# Altium schematic symbol library USB_Interface.SchLib: 5 symbols
Pins are listed as number, name and electrical type; pins without a type are passive.

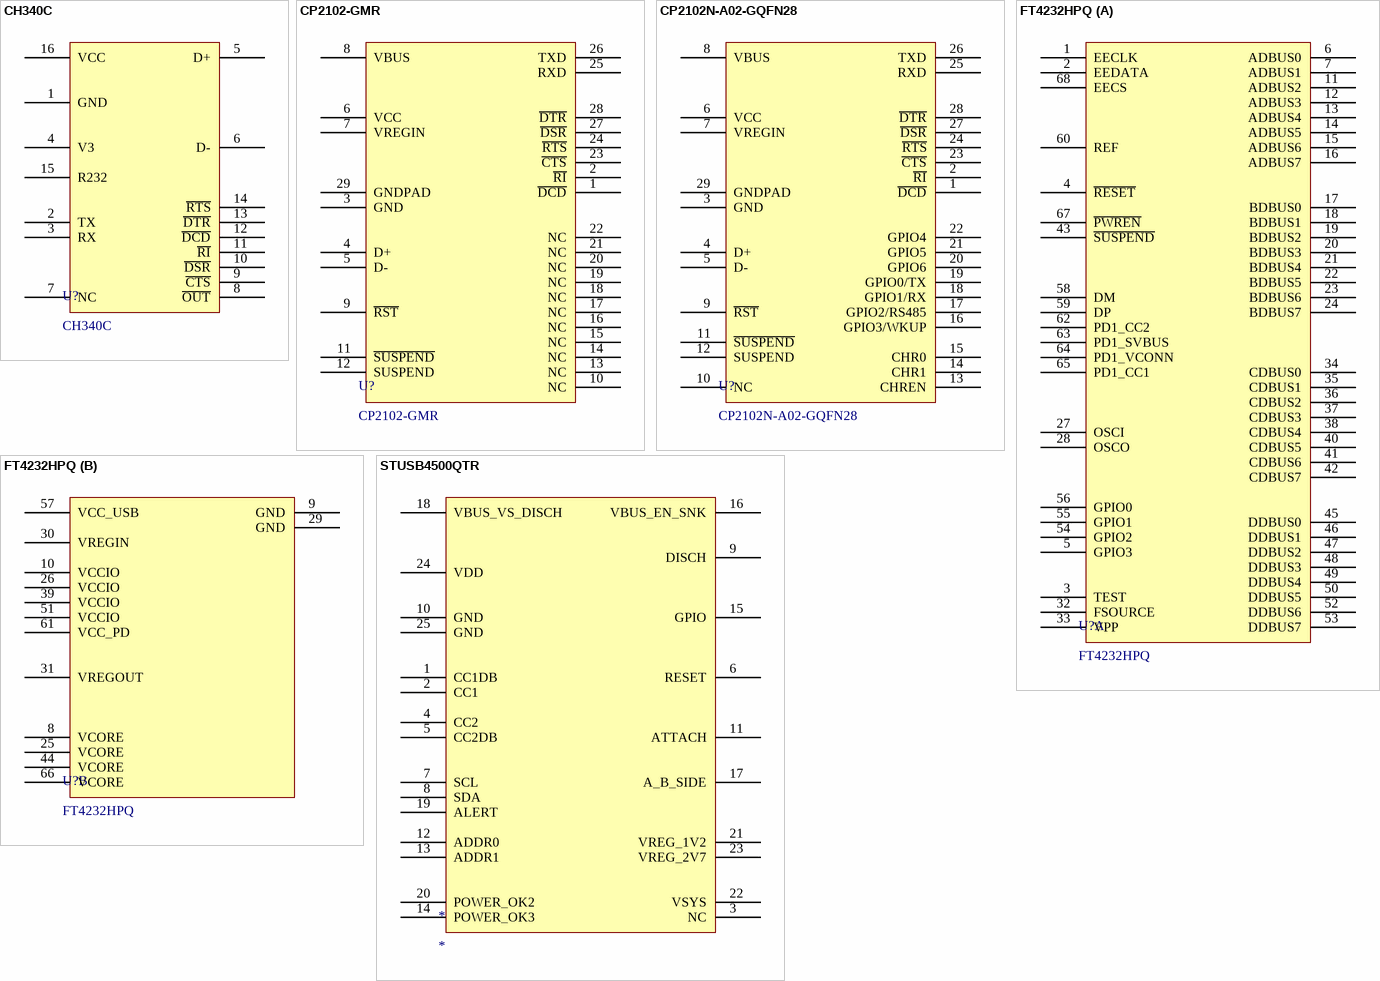
[diagram p0: symbols CH340C to STUSB4500QTR]

## CH340C
designator U?
USB to serial chip CH340; Manufacturer: WCH; Data rate: 2 Mb/s; Numbers of Ports: 1 Port; Speed: Full Speed (FS); Supply Voltage - Max: 3.3V; Supply Voltage - Min: 5V; Pad count: 16; Active: Active; Manufacturer Part Number: CH340C; Mount: SMD/SMT; Operating Temperature Max: + 85 C; Operating Temperature Min: - 40 C; Package / Case: SOP-16; Packaging: Tape and Reel; Standard: USB 2.0; Supplier 1: Mouser; Supplier 1 Part Number: N/A; Supplier 1 URL: N/A; Supplier 2: Digi-Key; Supplier 2 Part Number: N/A; Supplier 2 URL: N/A; Supplier 3: thegioiic; Supplier 3 Part Number: CH340C; Supplier 3 URL: https://www.thegioiic.com/ch340c-ic-usb-transceiver-2mbps-16-sop; Value: CH340C; ComponentLink1Description: Datasheet; ComponentLink1URL: https://www.thegioiic.com/upload/documents/9f224927ccfc4b1ab639cd34eba4ea3a.pdf; LCSC Part #: C84681
footprint CH340
pins: 1 GND, 2 TX, 3 RX, 4 V3, 5 D+, 6 D-, 7 NC, 8 ~{OUT}, 9 ~{CTS}, 10 ~{DSR}, 11 ~{RI}, 12 ~{DCD}, 13 ~{DTR}, 14 ~{RTS}, 15 R232, 16 VCC

## CP2102-GMR
designator U?
USB Interface IC USB to UART Bridge QFN28; Manufacturer: Silicon Laboratories; Active: NRND; Pad count: 28; Data rate: 12 Mb/s; Numbers of Ports: 1 Port; Speed: Full Speed (FS); Supply Voltage - Max: 3V; Supply Voltage - Min: 3.6V; Standard: USB 2.0; Supplier 1 URL: https://www.mouser.com/ProductDetail/Silicon-Labs/CP2102-GMR?qs=cNyzPCcHMUWu%2FiPhR8KQAw%3D%3D; Supplier 2 URL: https://www.digikey.com/en/products/detail/silicon-labs/cp2102-gmr/2051863; Supplier 3 URL: https://www.thegioiic.com/cp2102-ic-usb-controller-12mbps-28-qfn; Value: CP2102-GMR; Manufacturer Part Number: CP2102-GMR; Packaging: Tape and Reel; Supplier 1: Mouser; Supplier 1 Part Number: 634-CP2102-GMR; Supplier 2: Digi-Key; Supplier 2 Part Number: 336-1160-2-ND; Supplier 3: thegioiic; Supplier 3 Part Number: N/A; Mount: SMD/SMT; Operating Temperature Max: + 85 C; Operating Temperature Min: - 40 C; Package / Case: QFN-28; ComponentLink1Description: Datasheet; ComponentLink1URL: https://www.mouser.com/datasheet/2/368/CP2102-9-1397909.pdf; LCSC Part #: C6568
footprint CP2102-GMR (QFN, 28-Leads, Body 5.00x5.00mm, Pitch 0.50mm, Thermal Pad 3.13x3.13mm, IPC Medium Density)
pins: 1 ~{DCD}, 2 ~{RI}, 3 GND, 4 D+, 5 D-, 6 VCC, 7 VREGIN, 8 VBUS, 9 ~{RST}, 10 NC, 11 ~{SUSPEND}, 12 SUSPEND, 13 NC, 14 NC, 15 NC, 16 NC, 17 NC, 18 NC, 19 NC, 20 NC, 21 NC, 22 NC, 23 ~{CTS}, 24 ~{RTS}, 25 RXD, 26 TXD, 27 ~{DSR}, 28 ~{DTR}, 29 GNDPAD

## CP2102N-A02-GQFN28
designator U?
USB Interface IC USBXpress - USB to UART Bridge QFN28; Manufacturer: Silicon Laboratories; Data rate: 3 Mb/s; Numbers of Ports: 1 Port; Pad count: 28; Speed: Full Speed (FS); Supply Voltage - Max: 3V; Supply Voltage - Min: 3.6V; Active: Active; Standard: USB 2.0; Supplier 1 URL: https://www.mouser.com/ProductDetail/Silicon-Labs/CP2102N-A02-GQFN28?qs=sGAEpiMZZMuobhpKLk3hhxBFe7HcKaKttxz9xOIMcEs%3D; Supplier 2 URL: https://www.digikey.com/en/products/detail/silicon-labs/cp2102n-a02-gqfn28/9863477; Supplier 3 URL: N/A; Value: CP2102N-A02-GQFN28; Manufacturer Part Number: CP2102N-A02-GQFN28; Packaging: Tape and Reel; Supplier 1: Mouser; Supplier 1 Part Number: 634-CP2102NA02GQFN28; Supplier 2: Digi-Key; Supplier 2 Part Number: 336-5889-ND; Supplier 3: thegioiic; Supplier 3 Part Number: N/A; Mount: SMD/SMT; Operating Temperature Max: + 85 C; Operating Temperature Min: - 40 C; Package / Case: QFN-28; ComponentLink1Description: Datasheet; ComponentLink1URL: https://www.mouser.com/datasheet/2/368/cp2102n_datasheet-1634912.pdf; LCSC Part #: C964632
footprint CP2102N-A02-GQFN28 (QFN, 28-Leads, Body 5.00x5.00mm, Pitch 0.50mm, Thermal Pad 3.25x3.25mm, IPC Medium Density)
pins: 1 ~{DCD}, 2 ~{RI}, 3 GND, 4 D+, 5 D-, 6 VCC, 7 VREGIN, 8 VBUS, 9 ~{RST}, 10 NC, 11 ~{SUSPEND}, 12 SUSPEND, 13 CHREN, 14 CHR1, 15 CHR0, 16 GPIO3/WKUP, 17 GPIO2/RS485, 18 GPIO1/RX, 19 GPIO0/TX, 20 GPIO6, 21 GPIO5, 22 GPIO4, 23 ~{CTS}, 24 ~{RTS}, 25 RXD, 26 TXD, 27 ~{DSR}, 28 ~{DTR}, 29 GNDPAD

## FT4232HPQ
designator U?
USB Interface IC USB Bridge Type-C 3.0 32-Bit 8kB 48kB; Manufacturer: FTDI; Data rate: 12 Mb/s; Numbers of Ports: 2 Port; Pad count: 68; Speed: High Speed (HS); Supply Voltage - Max: 1.08 V; Supply Voltage - Min: 1.32 V; Active: Active; Standard: USB-C 3.0; Supplier 1 URL: https://www.mouser.com/ProductDetail/FTDI/FT4232HPQ-TRAY?qs=DRkmTr78QATL4FSPfVZC7Q%3D%3D; Supplier 2 URL: https://www.digikey.com/en/products/detail/ftdi-future-technology-devices-international-ltd/ft4232hpq-tray/13981003; Supplier 3 URL: N/A; Value: FT4232HPQ; Manufacturer Part Number: FT4232HPQ; Packaging: Tape and Reel; Supplier 1: Mouser; Supplier 1 Part Number: 895-FT4232HPQ-TRAY; Supplier 2: Digi-Key; Supplier 2 Part Number: 768-FT4232HPQ-TRAY-ND; Supplier 3: thegioiic; Supplier 3 Part Number: N/A; Mount: SMD/SMT; Operating Temperature Max: + 85 C; Operating Temperature Min: - 40 C; Package / Case: QFN-68; ComponentLink1Description: Datasheet; ComponentLink1URL: https://www.mouser.com/datasheet/2/163/DS_FT4233HP-3135614.pdf; LCSC Part #: N/A
footprint FT4232HPQ (QFN, 68-Leads, Body 8.00x8.00mm, Pitch 0.40mm, Thermal Pad 4.30x4.30mm, IPC Medium Density)
part A pins: 1 EECLK, 2 EEDATA, 3 TEST, 4 ~{RESET}, 5 GPIO3, 6 ADBUS0, 7 ADBUS1, 11 ADBUS2, 12 ADBUS3, 13 ADBUS4, 14 ADBUS5, 15 ADBUS6, 16 ADBUS7, 17 BDBUS0, 18 BDBUS1, 19 BDBUS2, 20 BDBUS3, 21 BDBUS4, 22 BDBUS5, 23 BDBUS6, 24 BDBUS7, 27 OSCI, 28 OSCO, 32 FSOURCE, 33 VPP, 34 CDBUS0, 35 CDBUS1, 36 CDBUS2, 37 CDBUS3, 38 CDBUS4, 40 CDBUS5, 41 CDBUS6, 42 CDBUS7, 43 ~{SUSPEND}, 45 DDBUS0, 46 DDBUS1, 47 DDBUS2, 48 DDBUS3, 49 DDBUS4, 50 DDBUS5, 52 DDBUS6, 53 DDBUS7, 54 GPIO2, 55 GPIO1, 56 GPIO0, 58 DM, 59 DP, 60 REF, 62 PD1_CC2, 63 PD1_SVBUS, 64 PD1_VCONN, 65 PD1_CC1, 67 ~{PWREN}, 68 EECS
part B pins: 8 VCORE, 9 GND, 10 VCCIO, 25 VCORE, 26 VCCIO, 29 GND, 30 VREGIN, 31 VREGOUT, 39 VCCIO, 44 VCORE, 51 VCCIO, 57 VCC_USB, 61 VCC_PD, 66 VCORE

## STUSB4500QTR
designator *
pins: 1 CC1DB, 2 CC1, 3 NC, 4 CC2, 5 CC2DB, 6 RESET, 7 SCL, 8 SDA, 9 DISCH, 10 GND, 11 ATTACH, 12 ADDR0, 13 ADDR1, 14 POWER_OK3, 15 GPIO, 16 VBUS_EN_SNK, 17 A_B_SIDE, 18 VBUS_VS_DISCH, 19 ALERT, 20 POWER_OK2, 21 VREG_1V2, 22 VSYS, 23 VREG_2V7, 24 VDD, 25 GND